# Altium schematic symbol library powerDevices.SchLib: 12 symbols
Pins are listed as number, name and electrical type; pins without a type are passive.

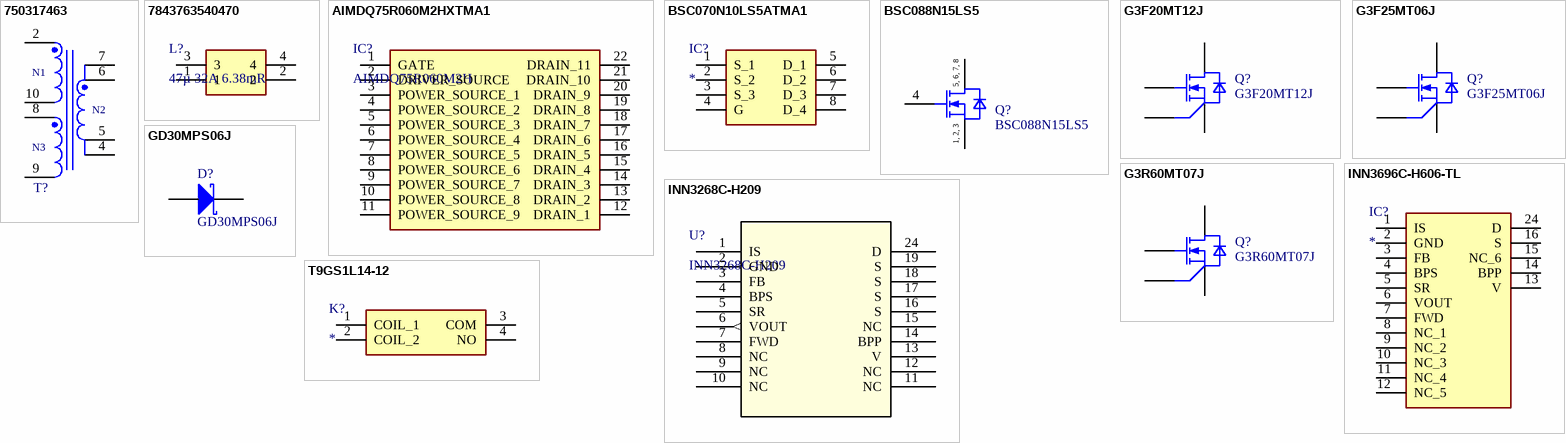
[diagram p0: symbols 750317463 to T9GS1L14-12]

## 750317463
designator T?, comment Ui = 57 - 424V, Uo = 12V / 4A  (value not drawn)
WE-OLLT Offline Flyback Transformer, THT, RM10, Ui = 57 - 424V, Uo = 12V / 4A; Manufacturer Part Number: 750317463; Manufacturer: Wurth Elektronik; Inductance: 440uH; Input Voltage: 57 - 424V (AC); Insulation Test Voltage: 3000V (AC); Saturation Current: 5.5A; Switching Frequency: 100kHz; Category: Transformers For AC-DC Converter; Match Code: WE-OLLT; ComponentLink1Description: Website Link; ComponentLink1URL: https://www.we-online.com/redexpert/article/750317463?ad; ComponentLink2Description: Datasheet Link; ComponentLink2URL: https://www.we-online.com/redexpert/spec/750317463?ad; Mount: Through Hole; Operating Temperature Max: 125°C; Operating Temperature Min: -40°C; Packaging: Tray; Case/Size Code: RM10; Length: 31.5mm; Width: 31.5mm; Height: 20.5mm; Auxiliary Voltage: 12V; Output Current: 4A; Output Voltage: 12V
footprint RM10_750317463 (Offline Flyback Transformer, THT, body 31.50 x 31.50 mm)
pins: 2, 4, 5, 6, 7, 8, 9, 10
text: N1; N2; N3

## 7843763540470
designator L?, comment 47µ 32A 6.38mR
47 µH Unshielded Wirewound Inductor 32 A 6.38mOhm; Manufacturer_Name: Wurth Elektronik; Manufacturer_Part_Number: 7843763540470; Datasheet Link: https://www.we-online.com/components/products/datasheet/7843763540470.pdf; Height: 35mm; Mouser Part Number: 710-7843763540470; Mouser Price/Stock: https://www.mouser.co.uk/ProductDetail/Wurth-Elektronik/7843763540470?qs=1Kr7Jg1SGW9e0nEeCT5AvQ%3D%3D
footprint 7843763540470
pins: 1, 2, 3, 4

## AIMDQ75R060M2HXTMA1
designator IC?, comment AIMDQ75R060M2H
SiC MOSFET 750V 60mOhm 60pF QDPAK; Manufacturer_Name: Infineon; Manufacturer_Part_Number: AIMDQ75R060M2HXTMA1; Datasheet Link: https://www.infineon.com/assets/row/public/documents/24/49/infineon-aimdq75r060m2h-datasheet-en.pdf; Height: 2.5mm
footprint SOP114P2096X250-22N
pins: 1 GATE, 2 DRIVER_SOURCE, 3 POWER_SOURCE_1, 4 POWER_SOURCE_2, 5 POWER_SOURCE_3, 6 POWER_SOURCE_4, 7 POWER_SOURCE_5, 8 POWER_SOURCE_6, 9 POWER_SOURCE_7, 10 POWER_SOURCE_8, 11 POWER_SOURCE_9, 12 DRAIN_1, 13 DRAIN_2, 14 DRAIN_3, 15 DRAIN_4, 16 DRAIN_5, 17 DRAIN_6, 18 DRAIN_7, 19 DRAIN_8, 20 DRAIN_9, 21 DRAIN_10, 22 DRAIN_11

## BSC070N10LS5ATMA1
designator IC?
MOSFET 100V 7mΩ TDSON; Manufacturer_Name: Infineon; Manufacturer_Part_Number: BSC070N10LS5ATMA1; Datasheet Link: https://www.infineon.com/dgdl/Infineon-BSC070N10LS5-DataSheet-v02_00-EN.pdf?fileId=5546d4626bb628d7016bdc41b1c2214d; Mouser Part Number: 726-BSC070N10LS5ATM1; Mouser Price/Stock: https://www.mouser.co.uk/ProductDetail/Infineon-Technologies/BSC070N10LS5ATMA1?qs=unwgFEO1A6tCLh%252BzkeSzRQ%3D%3D; Arrow Part Number: BSC070N10LS5ATMA1; Arrow Price/Stock: https://www.arrow.com/en/products/bsc070n10ls5atma1/infineon-technologies-ag?region=nac
footprint PG-TDSON-8-5
pins: 1 S_1, 2 S_2, 3 S_3, 4 G, 5 D_1, 6 D_2, 7 D_3, 8 D_4

## BSC088N15LS5
designator Q?
MOSFET 150V 7.6mΩ TDSON; Manufacturer Order Number: ISC025N08NM5LF2; Manufacturer: Infineon Technologies; PackageReference: PG-TDSON-8-59
footprint IFX-PG-TDSON-8-66-V (PG-TDSON-8-66, SMD, 1.27 mm pitch, 8 pin, 5.90 mm L X 5.075 mm W X 1.20 mm H body)
pins: 1 SOURCE, 2 SOURCE, 3 SOURCE, 4 GATE, 5 DRAIN, 6 DRAIN, 7 DRAIN, 8 DRAIN
text: 5, 6, 7, 8; 1, 2, 3

## G3F20MT12J
designator Q?
SiC MOSFET 1200V 20mΩ TO-263-7; Manufacturer: Navitas Semiconductor; Manufacturer Order Number: G3F20MT12J; PackageReference: PG-TO263-7-11; ComponentLink1Description: Datasheet; ComponentLink1URL: https://navitassemi.com/wp-content/plugins/gb-navitas-stock-checker/product_files/G3F25MT06J.pdf
footprint TO263-7/127P1500X470-8N-2-V1 (TO,1.27mm pitch;7 pin,15.00mm L X 9.25mm W X 4.70mm H body)
pins: 1 G, 2 KS, 3 S, 4 S, 5 S, 6 S, 7 S, 8 D

## G3F25MT06J
designator Q?
SiC MOSFET 650V 20.5mΩ TO-263-7; Manufacturer: Navitas Semiconductor; Manufacturer Order Number: G3F25MT06J; PackageReference: PG-TO263-7-11; ComponentLink1Description: Datasheet; ComponentLink1URL: https://navitassemi.com/wp-content/plugins/gb-navitas-stock-checker/product_files/G3F25MT06J.pdf
footprint TO263-7/127P1500X470-8N-2-V1 (TO,1.27mm pitch;7 pin,15.00mm L X 9.25mm W X 4.70mm H body)
pins: 1 G, 2 KS, 3 S, 4 S, 5 S, 6 S, 7 S, 8 D

## G3R60MT07J
designator Q?
SiC MOSFET 750V 60mΩ TO-263-7; Manufacturer: Navitas Semiconductor; Manufacturer Order Number: G3R60MT07J; PackageReference: PG-TO263-7-11; ComponentLink1Description: Datasheet; ComponentLink1URL: https://genesicsemi.com/sic-mosfet/G3R60MT07J/G3R60MT07J.pdf
footprint TO263-7/127P1500X470-8N-2-V1 (TO,1.27mm pitch;7 pin,15.00mm L X 9.25mm W X 4.70mm H body)
pins: 1 G, 2 KS, 3 S, 4 S, 5 S, 6 S, 7 S, 8 D

## GD30MPS06J
designator D?
SiC Schottky 650V 51A TO-263-7; Manufacturer: Navitas Semiconductor; Manufacturer Order Number: GD30MPS06J; PackageReference: PG-TO263-7-11; ComponentLink1Description: Datasheet; ComponentLink1URL: https://genesicsemi.com/sic-schottky-mps/GD30MPS06J/GD30MPS06J.pdf
footprint TO263-7/127P1500X470-8N-2-V1 (TO,1.27mm pitch;7 pin,15.00mm L X 9.25mm W X 4.70mm H body)
pins: 3 A, 4 A, 5 A, 6 A, 7 A, 8 K

## INN3268C-H209
designator U?
IC OFFLINE 650V SW 50W 24INSOP; Manufacturer_Name: Power Integrations; Type: Power Management; Copyright: Copyright (C) 2025 Ultra Librarian. All rights reserved.; Manufacturer_Part_Number: INN3268C-H209; RefDes: RefDes
footprint INSOP-24D_PWI
pins: 1 IS (power), 2 GND (power), 3 FB, 4 BPS, 5 SR, 6 VOUT (out), 7 FWD, 8 NC, 9 NC, 10 NC, 11 NC, 12 NC, 13 V (power), 14 BPP, 15 NC, 16 S, 17 S, 18 S, 19 S, 24 D

## INN3696C-H606-TL
designator IC?
IC OFFLINE 900V SW 30W 24INSOP; Manufacturer_Name: Power Integrations; Manufacturer_Part_Number: INN3696C-H606-TL; Datasheet Link: https://ac-dc.power.com/sites/default/files/product_document/data_sheet/innoswitch3-ep_family_datasheet.pdf; Height: 1.6mm; Mouser Part Number: 869-INN3696C-H606-TL; Mouser Price/Stock: https://www.mouser.co.uk/ProductDetail/Power-Integrations/INN3696C-H606-TL?qs=T3oQrply3y%252BBKBkU3yymrA%3D%3D
footprint INN3696CH606TL
pins: 1 IS, 2 GND, 3 FB, 4 BPS, 5 SR, 6 VOUT, 7 FWD, 8 NC_1, 9 NC_2, 10 NC_3, 11 NC_4, 12 NC_5, 13 V, 14 BPP, 15 NC_6, 16 S, 24 D

## T9GS1L14-12
designator K?
RELAY GEN PURPOSE SPST 30A 12V; Manufacturer_Name: TE Connectivity; Manufacturer_Part_Number: T9GS1L14-12; Datasheet Link: https://www.te.com/commerce/DocumentDelivery/DDEController?Action=srchrtrv&DocNm=T9G&DocType=Data%20Sheet&DocLang=English&PartCntxt=1558666-3&DocFormat=pdf; Height: 27mm; Mouser Part Number: 655-T9GS1L14-12; Mouser Price/Stock: https://www.mouser.co.uk/ProductDetail/TE-Connectivity-PB/T9GS1L14-12?qs=5aG0NVq1C4zDVnant0wK4g%3D%3D; Arrow Part Number: T9GS1L14-12; Arrow Price/Stock: https://www.arrow.com/en/products/t9gs1l14-12/te-connectivity?utm_currency=USD&region=nac
footprint T9GS1L2412
pins: 1 COIL_1, 2 COIL_2, 3 COM, 4 NO